# Altium schematic symbol library WE-CBF_1210.SchLib: 6 symbols
Pins are listed as number, name and electrical type; pins without a type are passive.

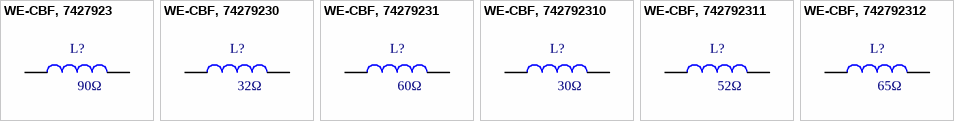
[diagram p0: symbols WE-CBF, 7427923 to WE-CBF, 742792312]

## WE-CBF, 7427923
designator L?, comment 90Ω
WE-CBF SMD EMI Suppression Ferrite Bead, 1210, 90Ω; PartNumber: 7427923; Type: High Speed; PublishedDate: Aug 2016; Publisher: Wurth Elektronik; ComponentLink1Description: Manufacturer; ComponentLink1URL: http://www.we-online.de; ComponentLink2Description: Datasheet; ComponentLink2URL: http://katalog.we-online.de/pbs/datasheet/7427923.pdf; Value: 90Ω; Size: 1210
footprint WE-CBF_1210_High Speed
pins: 1, 2

## WE-CBF, 74279230
designator L?, comment 32Ω
WE-CBF SMD EMI Suppression Ferrite Bead, 1210, 32Ω; PartNumber: 74279230; Type: High Speed; PublishedDate: Aug 2016; Publisher: Wurth Elektronik; ComponentLink1Description: Manufacturer; ComponentLink1URL: http://www.we-online.de; ComponentLink2Description: Datasheet; ComponentLink2URL: http://katalog.we-online.de/pbs/datasheet/74279230.pdf; Value: 32Ω; Size: 1210
footprint WE-CBF_1210_High Speed
pins: 1, 2

## WE-CBF, 74279231
designator L?, comment 60Ω
WE-CBF SMD EMI Suppression Ferrite Bead, 1210, 60Ω; PartNumber: 74279231; Type: High Speed; PublishedDate: Aug 2016; Publisher: Wurth Elektronik; ComponentLink1Description: Manufacturer; ComponentLink1URL: http://www.we-online.de; ComponentLink2Description: Datasheet; ComponentLink2URL: http://katalog.we-online.de/pbs/datasheet/74279231.pdf; Value: 60Ω; Size: 1210
footprint WE-CBF_1210_High Speed
pins: 1, 2

## WE-CBF, 742792310
designator L?, comment 30Ω
WE-CBF SMD EMI Suppression Ferrite Bead, 1210, 30Ω; PartNumber: 742792310; Type: High Current; PublishedDate: Aug 2016; Publisher: Wurth Elektronik; ComponentLink1Description: Manufacturer; ComponentLink1URL: http://www.we-online.de; ComponentLink2Description: Datasheet; ComponentLink2URL: http://katalog.we-online.de/pbs/datasheet/742792310.pdf; Value: 30Ω; Size: 1210
footprint WE-CBF_1210_High Current
pins: 1, 2

## WE-CBF, 742792311
designator L?, comment 52Ω
WE-CBF SMD EMI Suppression Ferrite Bead, 1210, 52Ω; PartNumber: 742792311; Type: High Current; PublishedDate: Aug 2016; Publisher: Wurth Elektronik; ComponentLink1Description: Manufacturer; ComponentLink1URL: http://www.we-online.de; ComponentLink2Description: Datasheet; ComponentLink2URL: http://katalog.we-online.de/pbs/datasheet/742792311.pdf; Value: 52Ω; Size: 1210
footprint WE-CBF_1210_High Current
pins: 1, 2

## WE-CBF, 742792312
designator L?, comment 65Ω
WE-CBF SMD EMI Suppression Ferrite Bead, 1210, 65Ω; PartNumber: 742792312; Type: High Current; PublishedDate: Aug 2016; Publisher: Wurth Elektronik; ComponentLink1Description: Manufacturer; ComponentLink1URL: http://www.we-online.de; ComponentLink2Description: Datasheet; ComponentLink2URL: http://katalog.we-online.de/pbs/datasheet/742792312.pdf; Value: 65Ω; Size: 1210
footprint WE-CBF_1210_High Current
pins: 1, 2